# EAGLE library part 5749069-2 (library con-amp-te)
TE CONNECTIVITY / AMP - BUCHSE, SCSI, VERTIKAL, 26 Source: Data sheet <http://www.tycoelectronics.com/commerce/DocumentDelivery/DDEController?Action=srchrtrv&DocNm=5749069&DocType=Customer+Drawing&DocLang=English>
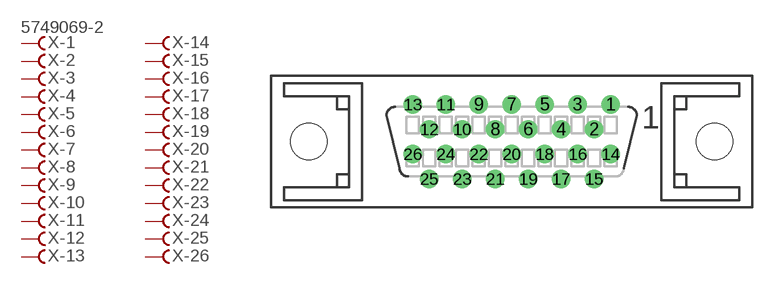
[diagram p6: symbol with the pads of 5749069-2; footprint 5749069-2]

Designator prefix X; gates -1=FV -2=F -3=F -4=F -5=F -6=F -7=F -8=F -9=F -10=F -11=F -12=F -13=F -14=F -15=F -16=F -17=F -18=F -19=F -20=F -21=F -22=F -23=F -24=F -25=F -26=F

## 5749069-2  [5749069-2]
1  -1:F  pas
2  -2:F  pas
3  -3:F  pas
4  -4:F  pas
5  -5:F  pas
6  -6:F  pas
7  -7:F  pas
8  -8:F  pas
9  -9:F  pas
10  -10:F  pas
11  -11:F  pas
12  -12:F  pas
13  -13:F  pas
14  -14:F  pas
15  -15:F  pas
16  -16:F  pas
17  -17:F  pas
18  -18:F  pas
19  -19:F  pas
20  -20:F  pas
21  -21:F  pas
22  -22:F  pas
23  -23:F  pas
24  -24:F  pas
25  -25:F  pas
26  -26:F  pas

## Footprint 5749069-2 (pad centres in mm)
TE CONNECTIVITY / AMP - BUCHSE, SCSI, VERTIKAL, 26 Source: Data sheet <http://www.tycoelectronics.com/commerce/DocumentDelivery/DDEController?Action=srchrtrv&DocNm=5749069&DocType=Customer+Drawing&DocLang=English>
drill 0.9 pad 1.27: 1 7.6,2.863; 2 6.33,0.953; 3 5.06,2.863; 4 3.79,0.953; 5 2.52,2.863; 6 1.25,0.953; 7 -0.02,2.863; 8 -1.29,0.953; 9 -2.56,2.863; 10 -3.83,0.953; 11 -5.1,2.863; 12 -6.37,0.953; 13 -7.64,2.863; 14 7.6,-0.957; 15 6.33,-2.867; 16 5.06,-0.957; 17 3.79,-2.867; 18 2.52,-0.957; 19 1.25,-2.867; 20 -0.02,-0.957; 21 -1.29,-2.867; 22 -2.56,-0.957; 23 -3.83,-2.867; 24 -5.1,-0.957; 25 -6.37,-2.867; 26 -7.64,-0.957
hole 2.8 at -15.64,0
hole 2.8 at 15.6,0